# Altium schematic symbol library M20-8760642.SchLib: 1 symbol
Pins are listed as number, name and electrical type; pins without a type are passive.

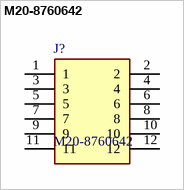
[diagram p0: symbol M20-8760642]

## M20-8760642
designator J?
HARWIN M20, 2.54mm Pitch, 12 Way, 2 Row Unshrouded, Straight Pin Header, Surface Mount, Solder Termination; Geometry.Height: 8mm; Manufacturer_Name: Harwin; Manufacturer_Part_Number: M20-8760642; Mouser Part Number: 855-M20-8760642; Mouser Price/Stock: https://www.mouser.com/Search/Refine.aspx?Keyword=855-M20-8760642; Arrow Part Number: *; Arrow Price/Stock: *; Datasheet Link: https://cdn.harwin.com/pdfs/M20-876.pdf
footprint M208760642
pins: 1, 2, 3, 4, 5, 6, 7, 8, 9, 10, 11, 12